# Altium footprint library SPT3G_LCBoard.PcbLib: 35 footprints (part 3 of 3)
Each footprint in its own frame and in the unit in brackets; x right, y up, seen from the top. Pads: shape width x height; smd on the part's side, far side on the other; paste and mask are expansions set on the pad; w line width, h text height; cw(c..) or ccw(c..) is an arc to the next point about the centre after c.
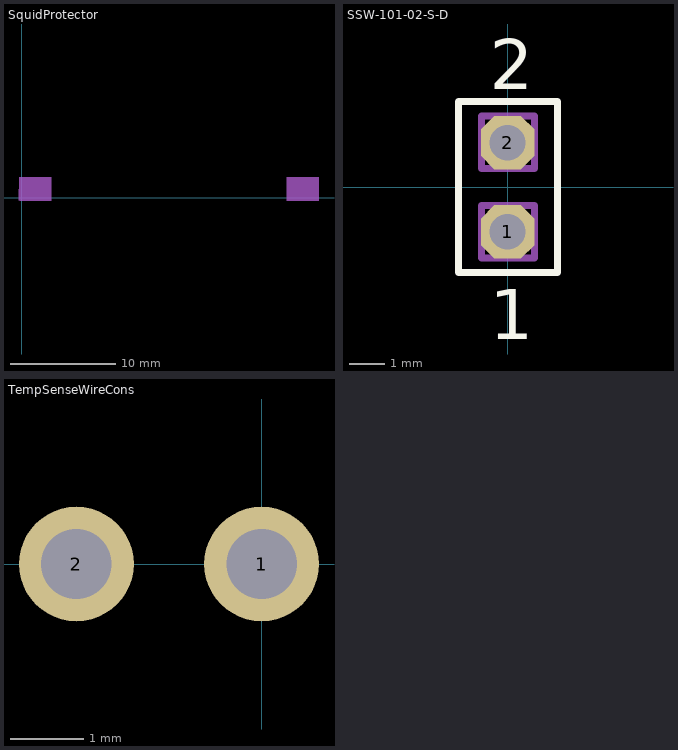
[diagram p2: the footprints below, top view; thin cyan lines are the x and y axes]

## SquidProtector [mil]
Top Solder:
  region: 110,75.54 110.54,-10 110,-10.54 -9.24,-10.54 -8,-7 -10.54,-10 -10.54,74.24 -10,75.54
  region: 1110.38,75.38 1110.54,75 1110.54,-10 1110.38,-10.38 1110,-10.54 990,-10.54 989.62,-10.38 989.46,-10 989.46,75 989.62,75.38 990,75.54 1110,75.54

## SSW-101-02-S-D [mil] "SSW-101-02-S-D"
pads (2):
  oct 60x60 hole 40: 1(0,-50) 2(0,50)
Top Overlay:
  lines w8: -55.08,-95.47 56,-95.47 56,96 -55.08,96 -55.08,-95.47
  text "1" at -20,-170 h56.1
  text "2" at -20,110 h56.1
Mechanical 16:
  lines w8: -29.33,-79.33 30,-79.33 30,-20.28 -29.33,-20.28 -29.33,-79.33 ; -29.33,21 30,21 30,80 -29.33,80 -29.33,21

## TempSenseWireCons [mil]
pads (2):
  round 62 / inner round 70 / far side round 62 hole 38 mask+5: 1(0,0) 2(-100,0)